# Altium schematic symbol library SCH - MISC - LPF-C011304S.SCHLIB: 1 symbol
Pins are listed as number, name and electrical type; pins without a type are passive.

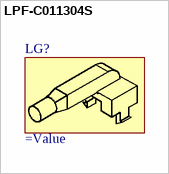
[diagram p0: symbol LPF-C011304S]

## LPF-C011304S
designator LG?